# Altium schematic symbol library BTS3410G.SchLib: 1 symbol
Pins are listed as number, name and electrical type; pins without a type are passive.

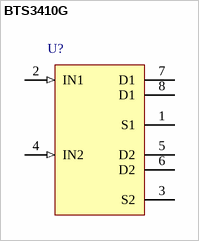
[diagram p0: symbol BTS3410G]

## BTS3410G
designator U?
Smart Low-Side Power Switch HITFET, 42 V VDS, 1.3 A ID, -40 to 150 degC, PG-DSO-8-25, Reel, Green; Manufacturer: Infineon; PartNumber: BTS3410G; Channels: 2; Green: TRUE; ID: 1 A; ID(nom): 1.3 A; ID(lim) (min): 5 A; Ptot (max): 0.8 W; RDS (on)(max): 200 mOhm; ton (max): 100 us; VDS (max): 42 V; DatasheetVersion: Rev. 1.3; PackageVersion: Nov-07; PackageReference: PG-DSO-8-25; PackageDescription: 8-Pin Plastic (Green) Dual Small Outline Package, 4.9 x 3.9 mm Body, 1.27 mm Pitch; Supplier 1: Digi-Key; Supplier Part Number 1: BTS3410GTR-ND; Supplier 2: Digi-Key; Supplier Part Number 2: BTS3410GCT-ND; Supplier 3: Digi-Key; Supplier Part Number 3: BTS3410GDKR-ND; Supplier 4: Mouser; Supplier Part Number 4: 726-BTS3410G; Group: HITFET; Halogen-free: TRUE; Packing: Reel; toff (max): 100 us; Mounting Technology: Surface Mount; ComponentLink1Description: Manufacturer URL; ComponentLink1URL: http://www.infineon.com/; ComponentLink2Description: Datasheet; ComponentLink2URL: http://www.infineon.com/dgdl/BTS3410G_DS_13.pdf?folderId=db3a3043163797a6011667aa084c0e01&fileId=db3a3043271faefd01274d02cd525d4a&location=en.Products.Automotive_ICs.Smart_High-_and_Low-Side_Switches.HITFET___TEMPFET__-_Smart_Low-Side_Switches.DATASHEET.BTS3410G_DS_13.pdf; ComponentLink3Description: Package Specification; ComponentLink3URL: http://www.infineon.com/dgdl/BTS3410G_DS_13.pdf?folderId=db3a3043163797a6011667aa084c0e01&fileId=db3a3043271faefd01274d02cd525d4a&location=en.Products.Automotive_ICs.Smart_High-_and_Low-Side_Switches.HITFET___TEMPFET__-_Smart_Low-Side_Switches.DATASHEET.BTS3410G_DS_13.pdf
footprint INF-PG-DSO-8-25_N (SOP, 8-Leads, Body 4.9x3.9mm, Pitch 1.27mm, IPC Medium Density)
footprint INF-PG-DSO-8-25_L (SOP, 8-Leads, Body 4.9x3.9mm, Pitch 1.27mm, IPC High Density)
footprint INF-PG-DSO-8-25_M (SOP, 8-Leads, Body 4.9x3.9mm, Pitch 1.27mm, IPC Low Density)
pins: 1 S1 (power) "Source Channel 1", 2 IN1 (in) "Input Channel 1", 3 S2 (power) "Source Channel 2", 4 IN2 (in) "Input Channel 2", 5 D2 (power) "Drain Channel 2", 6 D2 (power) "Drain Channel 2", 7 D1 (power) "Drain Channel 1", 8 D1 (power) "Drain Channel 1"